# Altium schematic symbol library Oscillator.SchLib: 2 symbols
Pins are listed as number, name and electrical type; pins without a type are passive.

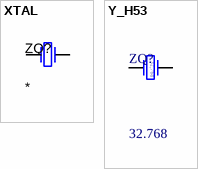
[diagram p0: symbols XTAL to Y_H53]

## XTAL
designator ZQ?
Crystal Oscillator
footprint HC49S_3D
footprint HC49SMD
footprint HC-49U (Quartz Crystal, Thru-Hole; 2 Leads; Body 11.35 x 4.65 x 13.46 mm (LxWxH max))
footprint KX-38T (QUARTZ CRYSTALS Cylindrical type)
pins: 1 OSC1, 2 OSC2

## Y_H53
designator ZQ?, comment 32.768
Quartz Generator; Value: 50MHz
footprint 32,768kHz (Surface Mount Quartz Generator; Body 5.0 x 3.2 mm (LxW))
pins: 1 OSC1, 4 OSC2
text: 32,768